# EAGLE library part UCC38050 (library TI-parts)
TRANSITION MODE PFC CONTROLLER
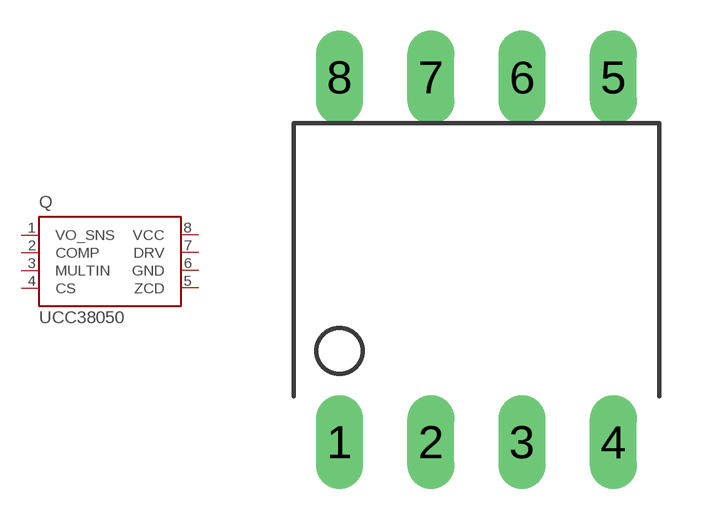
[diagram p2: symbol with the pads of DIP-8; footprint DIP-8]

Designator prefix Q

## UCC38050  [DIP-8]
1  VO_SNS  in
2  COMP  out
3  MULTIN  in
4  CS  in
5  ZCD  in
6  GND  pwr
7  DRV  out
8  VCC  pwr

## Footprint DIP-8 (pad centres in mm)
8DIP P (R-PDIP-T8), 2.54mm, 8 pins
drill 0.8 long: 1 -2.54,-5.08; 2 0,-5.08; 3 2.54,-5.08; 4 5.08,-5.08; 5 5.08,5.08; 6 2.54,5.08; 7 0,5.08; 8 -2.54,5.08